# EAGLE library part TRS-SWITCHED (library ryans-common-components)
Neutrik NMJ6HCD2 PCB-mounted TRS switching jack.
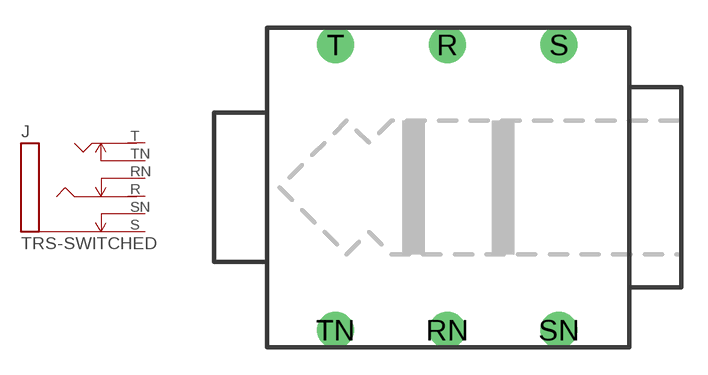
[diagram p14: symbol with the pads of NMJ6HCD2; footprint NMJ6HCD2]

Designator prefix J

## TRS-SWITCHED-NMJ6HCD2  [NMJ6HCD2]
R  R  pas
RN  RN  pas
S  S  pas
SN  SN  pas
T  T  pas
TN  TS  pas

## Footprint NMJ6HCD2 (pad centres in mm)
drill 1.4: R 0,8.115; RN 0,-8.115; S 6.35,8.115; SN 6.35,-8.115; T -6.35,8.115; TN -6.35,-8.115